# Altium schematic symbol library Switch.SchLib: 1 symbol
Pins are listed as number, name and electrical type; pins without a type are passive.

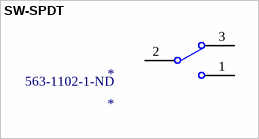
[diagram p0: symbol SW-SPDT]

## SW-SPDT
designator *  Supplier Part Number 1: 563-1102-1-ND
Supplier 1: Digi-Key
footprint 563-1102-1-ND
pins: 1, 2, 3